# EAGLE library part PINHD-3X25 (library 25pinhead)
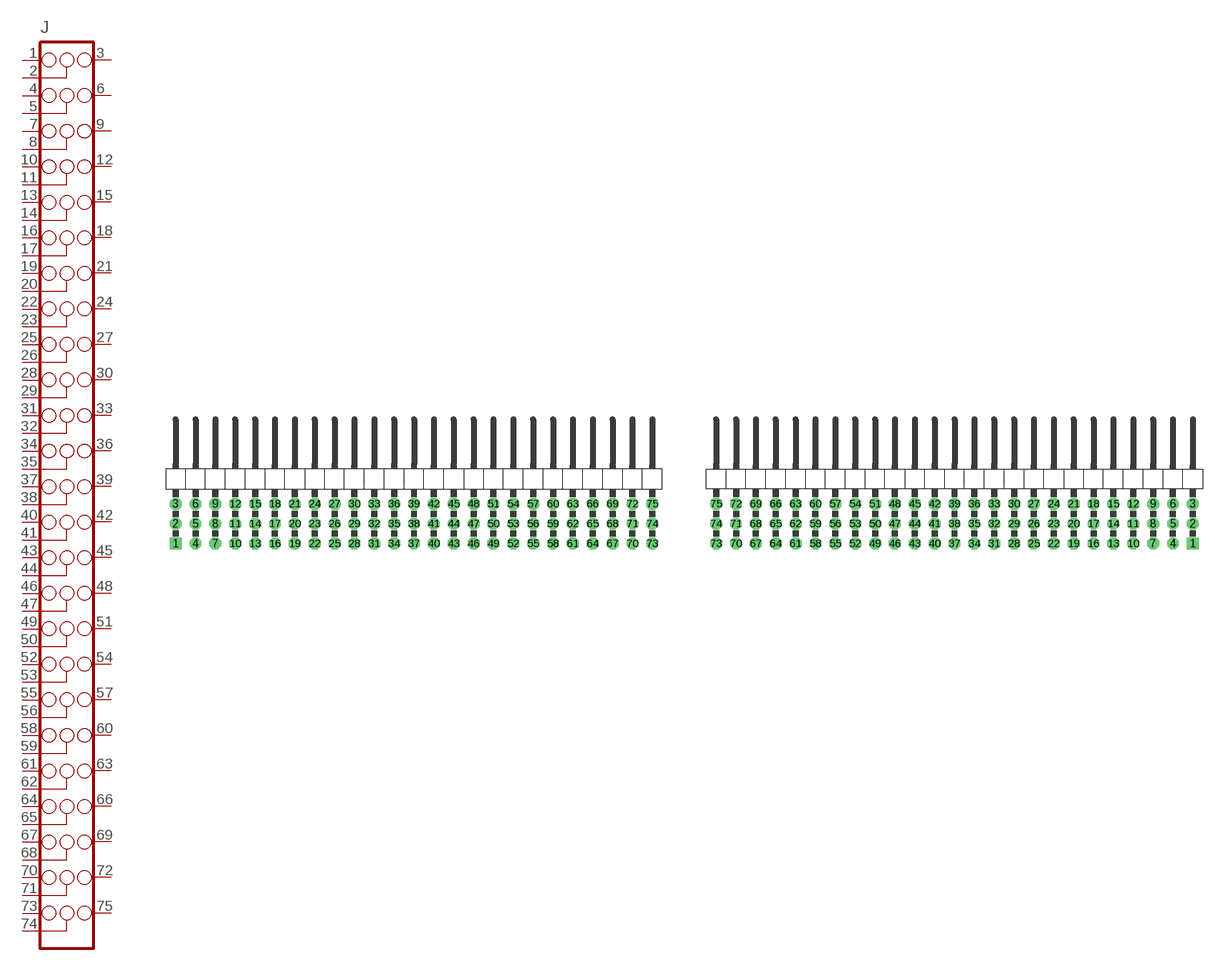
[diagram p47: symbol with the pads of 3X25/90; footprints 3X25/90, 3X25/90/M]

Designator prefix J

## PINHD-3X25/90  [3X25/90]
1  1  pas
2  2  pas
3  3  pas
4  4  pas
5  5  pas
6  6  pas
7  7  pas
8  8  pas
9  9  pas
10  10  pas
11  11  pas
12  12  pas
13  13  pas
14  14  pas
15  15  pas
16  16  pas
17  17  pas
18  18  pas
19  19  pas
20  20  pas
21  21  pas
22  22  pas
23  23  pas
24  24  pas
25  25  pas
26  26  pas
27  27  pas
28  28  pas
29  29  pas
30  30  pas
31  31  pas
32  32  pas
33  33  pas
34  34  pas
35  35  pas
36  36  pas
37  37  pas
38  38  pas
39  39  pas
40  40  pas
41  41  pas
42  42  pas
43  43  pas
44  44  pas
45  45  pas
46  46  pas
47  47  pas
48  48  pas
49  49  pas
50  50  pas
51  51  pas
52  52  pas
53  53  pas
54  54  pas
55  55  pas
56  56  pas
57  57  pas
58  58  pas
59  59  pas
60  60  pas
61  61  pas
62  62  pas
63  63  pas
64  64  pas
65  65  pas
66  66  pas
67  67  pas
68  68  pas
69  69  pas
70  70  pas
71  71  pas
72  72  pas
73  73  pas
74  74  pas
75  75  pas

## PINHD-3X25/90/M  [3X25/90/M]
Pads as for 3X25/90

## Footprint 3X25/90 (pad centres in mm)
drill 1.016 square: 1 0,0
drill 1.016 octagon: 2 0,2.54; 3 0,5.08; 4 2.54,0; 5 2.54,2.54; 6 2.54,5.08; 7 5.08,0; 8 5.08,2.54; 9 5.08,5.08; 10 7.62,0; 11 7.62,2.54; 12 7.62,5.08; 13 10.16,0; 14 10.16,2.54; 15 10.16,5.08; 16 12.7,0; 17 12.7,2.54; 18 12.7,5.08; 19 15.24,0; 20 15.24,2.54; 21 15.24,5.08; 22 17.78,0; 23 17.78,2.54; 24 17.78,5.08; 25 20.32,0; 26 20.32,2.54; 27 20.32,5.08; 28 22.86,0; 29 22.86,2.54; 30 22.86,5.08; 31 25.4,0; 32 25.4,2.54; 33 25.4,5.08; 34 27.94,0; 35 27.94,2.54; 36 27.94,5.08; 37 30.48,0; 38 30.48,2.54; 39 30.48,5.08; 40 33.02,0; 41 33.02,2.54; 42 33.02,5.08; 43 35.56,0; 44 35.56,2.54; 45 35.56,5.08; 46 38.1,0; 47 38.1,2.54; 48 38.1,5.08; 49 40.64,0; 50 40.64,2.54; 51 40.64,5.08; 52 43.18,0; 53 43.18,2.54; 54 43.18,5.08; 55 45.72,0; 56 45.72,2.54; 57 45.72,5.08; 58 48.26,0; 59 48.26,2.54; 60 48.26,5.08; 61 50.8,0; 62 50.8,2.54; 63 50.8,5.08; 64 53.34,0; 65 53.34,2.54; 66 53.34,5.08; 67 55.88,0; 68 55.88,2.54; 69 55.88,5.08; 70 58.42,0; 71 58.42,2.54; 72 58.42,5.08; 73 60.96,0; 74 60.96,2.54; 75 60.96,5.08

## Footprint 3X25/90/M (pad centres in mm)
drill 1.016 square: 1 0,0
drill 1.016 octagon: 2 0,2.54; 3 0,5.08; 4 -2.54,0; 5 -2.54,2.54; 6 -2.54,5.08; 7 -5.08,0; 8 -5.08,2.54; 9 -5.08,5.08; 10 -7.62,0; 11 -7.62,2.54; 12 -7.62,5.08; 13 -10.16,0; 14 -10.16,2.54; 15 -10.16,5.08; 16 -12.7,0; 17 -12.7,2.54; 18 -12.7,5.08; 19 -15.24,0; 20 -15.24,2.54; 21 -15.24,5.08; 22 -17.78,0; 23 -17.78,2.54; 24 -17.78,5.08; 25 -20.32,0; 26 -20.32,2.54; 27 -20.32,5.08; 28 -22.86,0; 29 -22.86,2.54; 30 -22.86,5.08; 31 -25.4,0; 32 -25.4,2.54; 33 -25.4,5.08; 34 -27.94,0; 35 -27.94,2.54; 36 -27.94,5.08; 37 -30.48,0; 38 -30.48,2.54; 39 -30.48,5.08; 40 -33.02,0; 41 -33.02,2.54; 42 -33.02,5.08; 43 -35.56,0; 44 -35.56,2.54; 45 -35.56,5.08; 46 -38.1,0; 47 -38.1,2.54; 48 -38.1,5.08; 49 -40.64,0; 50 -40.64,2.54; 51 -40.64,5.08; 52 -43.18,0; 53 -43.18,2.54; 54 -43.18,5.08; 55 -45.72,0; 56 -45.72,2.54; 57 -45.72,5.08; 58 -48.26,0; 59 -48.26,2.54; 60 -48.26,5.08; 61 -50.8,0; 62 -50.8,2.54; 63 -50.8,5.08; 64 -53.34,0; 65 -53.34,2.54; 66 -53.34,5.08; 67 -55.88,0; 68 -55.88,2.54; 69 -55.88,5.08; 70 -58.42,0; 71 -58.42,2.54; 72 -58.42,5.08; 73 -60.96,0; 74 -60.96,2.54; 75 -60.96,5.08